# Altium integrated library Linear Technology Power Management PMIC Multifunction.IntLib: 360 symbols (part 15 of 42)
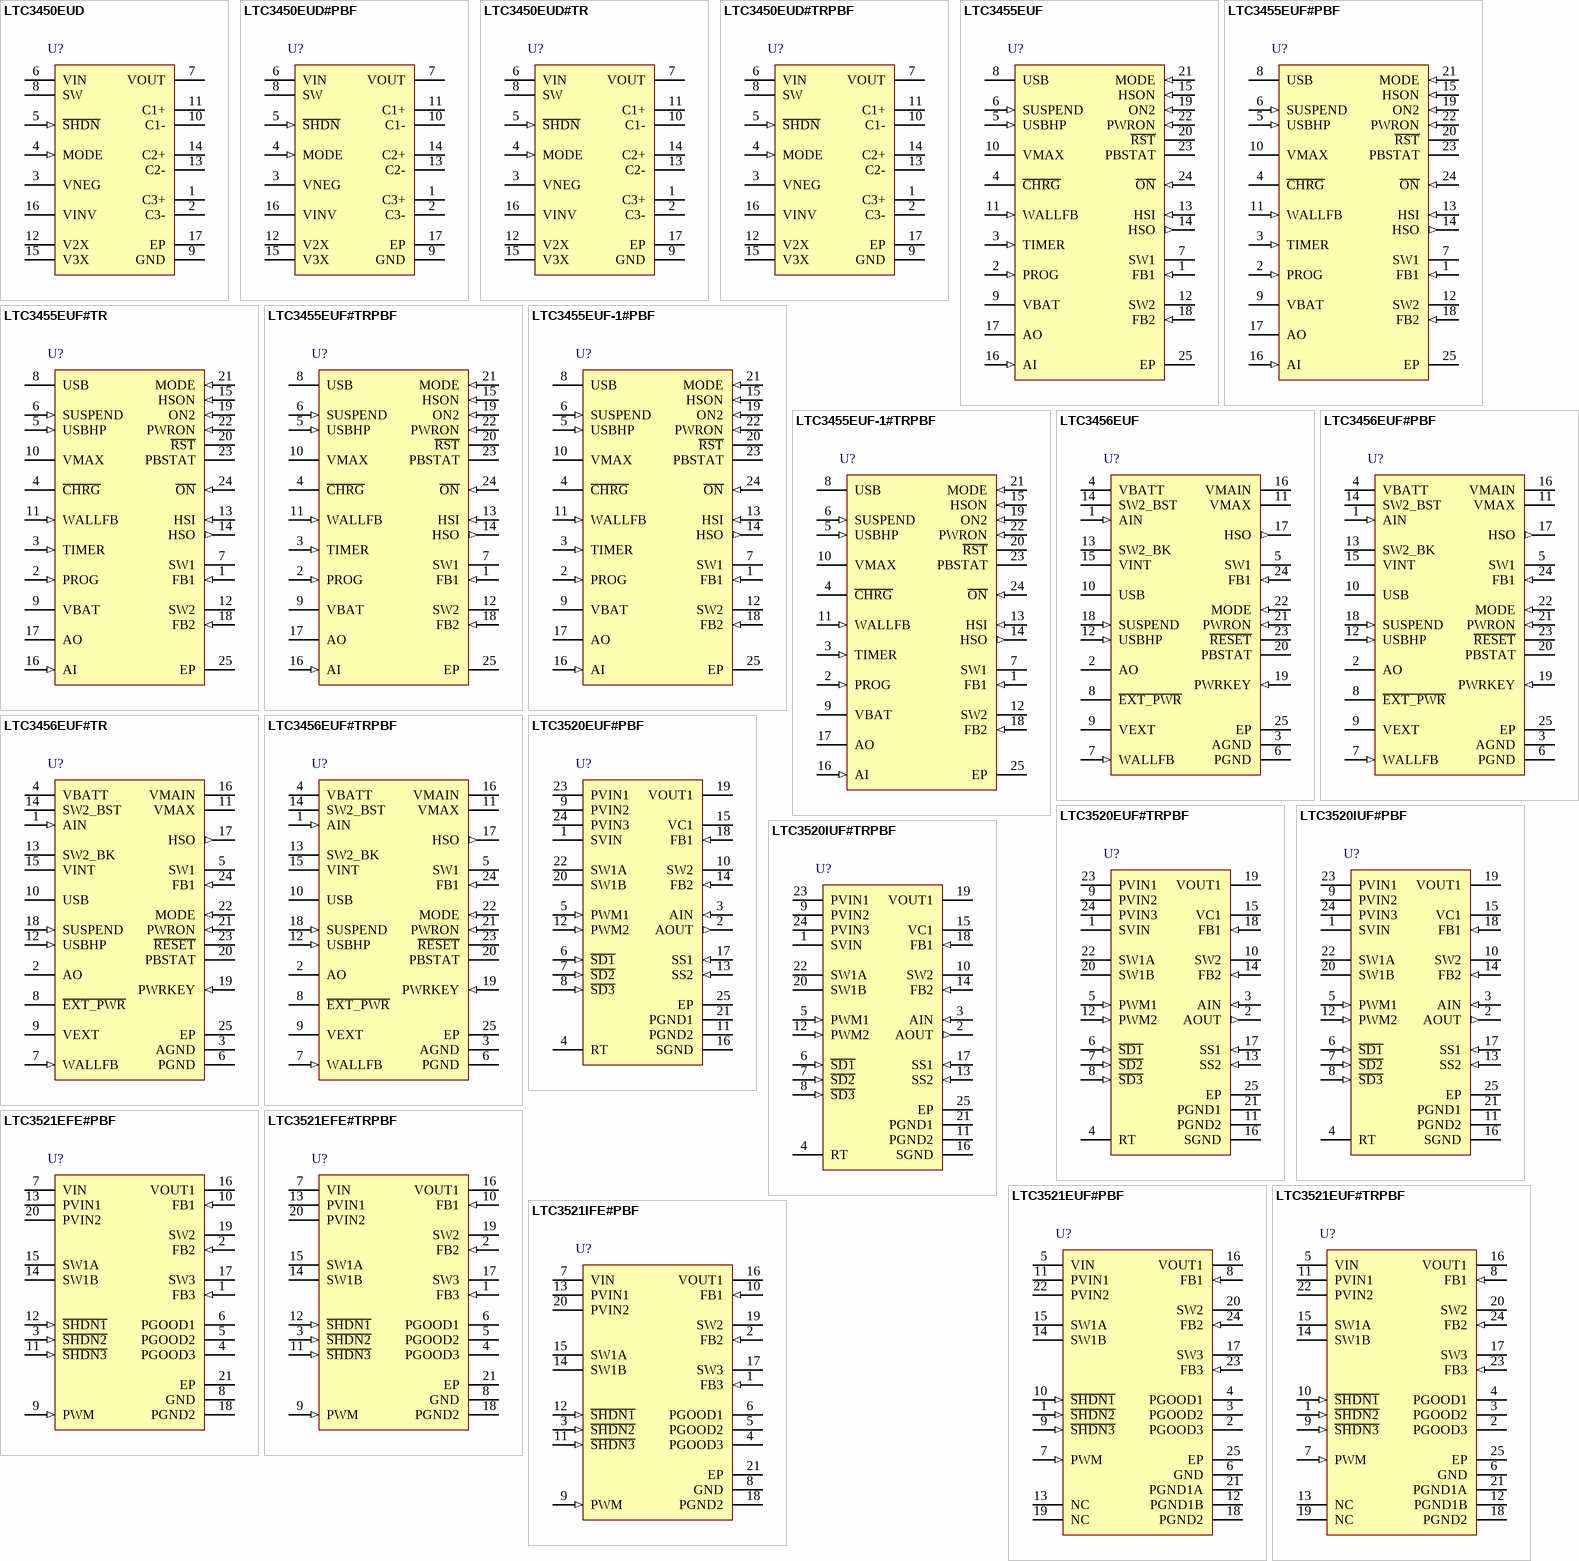
[diagram p32: symbols LTC3450EUD to LTC3521IFE#PBF]

## LTC3456EUF#TR
designator U?
2-Cell, Multi-Output DC/DC Converter with USB Power Manager, 1.8 to 5.5 V Vin, 24-pin QFN (UF-24), -40 to 85 degC, Tape and Reel; Manufacturer: Linear Technology; PartNumber: LTC3456EUF#TR; Number of Outputs: 2; Vin Max(V): 5.5; Vin Min(V): 1.8; DatasheetVersion: Rev. A; PackageVersion: Rev. B, 02/2012; PackageReference: UF24; PackageDescription: 24-Pin Plastic QFN, Body 4 x 4 mm, Pitch 0.5 mm; Packing: Tape and Reel; RoHS: FALSE; Mounting Technology: Surface Mount; Code_JEDEC: MO-220; ComponentLink1Description: Manufacturer URL; ComponentLink1URL: http://www.linear.com/; ComponentLink2Description: Datasheet; ComponentLink2URL: http://cds.linear.com/docs/en/datasheet/3456fa.pdf; ComponentLink3Description: Package Specification; ComponentLink3URL: http://cds.linear.com/docs/en/packaging/%28UF24%29%20QFN%2005-08-1697%20Rev%20B.pdf
footprint LT-UF-24_N (QFN, 24-Leads, Body 4.1x4.1mm, Pitch 0.5mm, Thermal Pad 2.45x2.45mm, IPC Medium Density)
footprint LT-UF-24_L (QFN, 24-Leads, Body 4.1x4.1mm, Pitch 0.5mm, Thermal Pad 2.45x2.45mm, IPC High Density)
footprint LT-UF-24_M (QFN, 24-Leads, Body 4.1x4.1mm, Pitch 0.5mm, Thermal Pad 2.45x2.45mm, IPC Low Density)
pins: 1 AIN (in) "Low-Battery Detector Input Pin. The detector compares the voltage on this pin to an 800mV reference. Connect the resistor divider tap to this pin to set the lowbattery trip point.", 2 AO (oc) "Open-Drain Digital Output. This open-drain logic output is pulled to GND whenever the AIN pin voltage falls lower than 0.8V.", 3 AGND (power) "Analog Ground. All resistor dividers should be connected to this pin.", 4 VBATT (power) "Battery Input Supply. The input voltage at this pin can range from 1.8V to 3.2V. Must be locally bypassed with a 1uF (or greater) X5R or X7R type ceramic capacitor.", 5 SW1 (power) "Switch Pin for Core Regulator. Connect the inductor between SW1 and the output capacitor. Keep these PCB trace lengths as short and wide as possible to reduce EMI.", 6 PGND (power) "Power Ground. This is the ground pin for all internal drivers and switches. Provide a short PCB path between PGND and PCB system ground.", 7 WALLFB (in) "Wall Feedback Pin. This pin receives the feedback voltage from an external resistor divider across the AC wall adapter input. When the pin voltage is higher than 1.25V, the chip is powered from the VEXT pin and the USB (See Datasheet)", 8 ~{EXT_PWR} (hiz) "External Power Good Pin. This opendrain logic output is pulled to GND whenever the WALLFB pin is pulled higher than 1.25V or the USB pin voltage is greater than 4V and SUSPEND is low. Essentially this pin is pulled low (See Datasheet)", 9 VEXT (power) "External Power Pin. This pin is connected to the USB pin via an internal 0.5ohm (typ) PMOS switch. The AC wall adapter can be connected to this pin through a Schottky diode. An onboard voltage detector prevents the IC from (See Datasheet)", 10 USB (power) "USB Input Supply. Input current into this pin is limited to either 100mA or 500mA based on the state of the USBHP pin. When the USB pin voltage is greater than 4V and SUSPEND is low, and WALLFB is less than 1.25V, USB is (See Datasheet)", 11 VMAX (power) "Maximum Supply Voltage Pin. A special internal PowerPathTM controller monitors the VBATT, VINT, VEXT and USB voltages and passes the highest available supply voltage to the VMAX pin. This pin is used to power some of the (See Datasheet)", 12 USBHP (in) "USB High Power Select Pin. This pin is used to set the USB current limit. Pull high to select 500mA current limit (High Power mode); low to select 100mA current limit (Low Power mode). This pin has a weak pulldown current (See Datasheet)", 13 SW2_BK (power) "Switch Pin for Main Regulator (USB or Wall Powered). Connect the inductor between SW2_BK and the output voltage. Keep these PCB trace lengths as short and wide as possible to reduce EMI.", 14 SW2_BST (power) "Switch Pin for Main Regulator (Battery Powered). Connect the inductor between SW2_BST and VBATT. Keep these PCB trace lengths as short and wide as possible to reduce EMI.", 15 VINT (power) "Internal Supply Voltage Pin. The VINT voltage is regulated to 3.3V. This pin is used to power most of the internal circuitry of the IC. Do not load this output. Connect an output capacitor from this pin to ground.", 16 VMAIN (power) "Main Regulator Output Voltage. An internal 0.4ohm PMOS switch connects this pin to the VINT pin 0.8ms (typ) after the Core voltage comes into regulation. This ensures that VMAIN will always power up after Core output during (See Datasheet)", 17 HSO (out) "Hot Swap Output. An internal 0.8ohm current limited PMOS switch connects this pin to the VINT pin 0.5ms after the core voltage comes into regulation. The nominal voltage at this pin is 3.3V. It is short-circuit protected and (See Datasheet)", 18 SUSPEND (in) "USB Suspend Pin. Pull this pin high to disable all USB functionality. The USB switch connected between USB and VEXT behaves like a back-to-back diode whenever SUSPEND is pulled high. In Suspend mode the device limits the (See Datasheet)", 19 PWRKEY (in) "Power O\N\/OFF Key. Connecting this pin to GND will turn on the IC. This pin is typically used with a momentary-on pushbutton switch to turn on the LTC3456. This pin must be held low until the PWRON pin is pulled high (See Datasheet)", 20 PBSTAT (oc) "Power O\N\/OFF Key Status Pin. This open-drain output pin indicates the state of the PWRKEY pin to the microcontroller. The pin output follows the state of the PWRKEY pin (PBSTAT goes low when PWRKEY is pulled low).", 21 PWRON (in) "Power On Pin. When pulled high this microprocessor controlled pin turns on the IC. This pin has a weak 1uA pull-down current source.", 22 MODE (in) "Burst Mode Select Pin. Tie this pin high to allow automatic Burst Mode operation. Burst Mode operation will provide superior efficiency when any of the outputs are operating with very low output currents. Tie this pin low to (See Datasheet)", 23 ~{RESET} (oc) "Fault Indicator Output Pin. This open-drain output is active both at power-up and power-down. R\E\S\E\T\ is held low at initial power up. When both the Core and Main outputs come into regulation, an internal R\E\S\E\T\ delay (See Datasheet)", 24 FB1 (in) "Feedback Pin for the Core Regulator. The regulator drives the voltage at this pin to 0.8V. Connect the resistor divider tap to this pin. The output voltage of the core regulator can be adjusted from 0.8V to VBATT(MIN).", 25 EP (power) "The Exposed Pad must be soldered to the PCB system ground."

## LTC3456EUF#TRPBF
designator U?
2-Cell, Multi-Output DC/DC Converter with USB Power Manager, 1.8 to 5.5 V Vin, 24-pin QFN (UF-24), -40 to 85 degC, Pb-Free, Tape and Reel; Manufacturer: Linear Technology; PartNumber: LTC3456EUF#TRPBF; Number of Outputs: 2; Vin Max(V): 5.5; Vin Min(V): 1.8; DatasheetVersion: Rev. A; PackageVersion: Rev. B, 02/2012; PackageReference: UF24; PackageDescription: 24-Pin Plastic QFN, Body 4 x 4 mm, Pitch 0.5 mm; Supplier 1: Digi-Key; Supplier Part Number 1: LTC3456EUF#TRPBF-ND; Packing: Tape and Reel; RoHS: TRUE; Mounting Technology: Surface Mount; Code_JEDEC: MO-220; ComponentLink1Description: Manufacturer URL; ComponentLink1URL: http://www.linear.com/; ComponentLink2Description: Datasheet; ComponentLink2URL: http://cds.linear.com/docs/en/datasheet/3456fa.pdf; ComponentLink3Description: Package Specification; ComponentLink3URL: http://cds.linear.com/docs/en/packaging/%28UF24%29%20QFN%2005-08-1697%20Rev%20B.pdf
footprint LT-UF-24_N (QFN, 24-Leads, Body 4.1x4.1mm, Pitch 0.5mm, Thermal Pad 2.45x2.45mm, IPC Medium Density)
footprint LT-UF-24_L (QFN, 24-Leads, Body 4.1x4.1mm, Pitch 0.5mm, Thermal Pad 2.45x2.45mm, IPC High Density)
footprint LT-UF-24_M (QFN, 24-Leads, Body 4.1x4.1mm, Pitch 0.5mm, Thermal Pad 2.45x2.45mm, IPC Low Density)
pins: 1 AIN (in) "Low-Battery Detector Input Pin. The detector compares the voltage on this pin to an 800mV reference. Connect the resistor divider tap to this pin to set the lowbattery trip point.", 2 AO (oc) "Open-Drain Digital Output. This open-drain logic output is pulled to GND whenever the AIN pin voltage falls lower than 0.8V.", 3 AGND (power) "Analog Ground. All resistor dividers should be connected to this pin.", 4 VBATT (power) "Battery Input Supply. The input voltage at this pin can range from 1.8V to 3.2V. Must be locally bypassed with a 1uF (or greater) X5R or X7R type ceramic capacitor.", 5 SW1 (power) "Switch Pin for Core Regulator. Connect the inductor between SW1 and the output capacitor. Keep these PCB trace lengths as short and wide as possible to reduce EMI.", 6 PGND (power) "Power Ground. This is the ground pin for all internal drivers and switches. Provide a short PCB path between PGND and PCB system ground.", 7 WALLFB (in) "Wall Feedback Pin. This pin receives the feedback voltage from an external resistor divider across the AC wall adapter input. When the pin voltage is higher than 1.25V, the chip is powered from the VEXT pin and the USB (See Datasheet)", 8 ~{EXT_PWR} (hiz) "External Power Good Pin. This opendrain logic output is pulled to GND whenever the WALLFB pin is pulled higher than 1.25V or the USB pin voltage is greater than 4V and SUSPEND is low. Essentially this pin is pulled low (See Datasheet)", 9 VEXT (power) "External Power Pin. This pin is connected to the USB pin via an internal 0.5ohm (typ) PMOS switch. The AC wall adapter can be connected to this pin through a Schottky diode. An onboard voltage detector prevents the IC from (See Datasheet)", 10 USB (power) "USB Input Supply. Input current into this pin is limited to either 100mA or 500mA based on the state of the USBHP pin. When the USB pin voltage is greater than 4V and SUSPEND is low, and WALLFB is less than 1.25V, USB is (See Datasheet)", 11 VMAX (power) "Maximum Supply Voltage Pin. A special internal PowerPathTM controller monitors the VBATT, VINT, VEXT and USB voltages and passes the highest available supply voltage to the VMAX pin. This pin is used to power some of the (See Datasheet)", 12 USBHP (in) "USB High Power Select Pin. This pin is used to set the USB current limit. Pull high to select 500mA current limit (High Power mode); low to select 100mA current limit (Low Power mode). This pin has a weak pulldown current (See Datasheet)", 13 SW2_BK (power) "Switch Pin for Main Regulator (USB or Wall Powered). Connect the inductor between SW2_BK and the output voltage. Keep these PCB trace lengths as short and wide as possible to reduce EMI.", 14 SW2_BST (power) "Switch Pin for Main Regulator (Battery Powered). Connect the inductor between SW2_BST and VBATT. Keep these PCB trace lengths as short and wide as possible to reduce EMI.", 15 VINT (power) "Internal Supply Voltage Pin. The VINT voltage is regulated to 3.3V. This pin is used to power most of the internal circuitry of the IC. Do not load this output. Connect an output capacitor from this pin to ground.", 16 VMAIN (power) "Main Regulator Output Voltage. An internal 0.4ohm PMOS switch connects this pin to the VINT pin 0.8ms (typ) after the Core voltage comes into regulation. This ensures that VMAIN will always power up after Core output during (See Datasheet)", 17 HSO (out) "Hot Swap Output. An internal 0.8ohm current limited PMOS switch connects this pin to the VINT pin 0.5ms after the core voltage comes into regulation. The nominal voltage at this pin is 3.3V. It is short-circuit protected and (See Datasheet)", 18 SUSPEND (in) "USB Suspend Pin. Pull this pin high to disable all USB functionality. The USB switch connected between USB and VEXT behaves like a back-to-back diode whenever SUSPEND is pulled high. In Suspend mode the device limits the (See Datasheet)", 19 PWRKEY (in) "Power O\N\/OFF Key. Connecting this pin to GND will turn on the IC. This pin is typically used with a momentary-on pushbutton switch to turn on the LTC3456. This pin must be held low until the PWRON pin is pulled high (See Datasheet)", 20 PBSTAT (oc) "Power O\N\/OFF Key Status Pin. This open-drain output pin indicates the state of the PWRKEY pin to the microcontroller. The pin output follows the state of the PWRKEY pin (PBSTAT goes low when PWRKEY is pulled low).", 21 PWRON (in) "Power On Pin. When pulled high this microprocessor controlled pin turns on the IC. This pin has a weak 1uA pull-down current source.", 22 MODE (in) "Burst Mode Select Pin. Tie this pin high to allow automatic Burst Mode operation. Burst Mode operation will provide superior efficiency when any of the outputs are operating with very low output currents. Tie this pin low to (See Datasheet)", 23 ~{RESET} (oc) "Fault Indicator Output Pin. This open-drain output is active both at power-up and power-down. R\E\S\E\T\ is held low at initial power up. When both the Core and Main outputs come into regulation, an internal R\E\S\E\T\ delay (See Datasheet)", 24 FB1 (in) "Feedback Pin for the Core Regulator. The regulator drives the voltage at this pin to 0.8V. Connect the resistor divider tap to this pin. The output voltage of the core regulator can be adjusted from 0.8V to VBATT(MIN).", 25 EP (power) "The Exposed Pad must be soldered to the PCB system ground."

## LTC3520EUF#PBF
designator U?
Synchronous 1 A Buck-Boost and 600 mA Buck Converter, 2.2 to 5.5 V Vin, 24-pin QFN (UF-24), -40 to 85 degC, Pb-Free; Manufacturer: Linear Technology; PartNumber: LTC3520EUF#PBF; Number of Outputs: 2; Vin Max(V): 5.5; Vin Min(V): 2.2; DatasheetVersion: Rev. A; PackageVersion: Rev. B, 02/2012; PackageReference: UF24; PackageDescription: 24-Pin Plastic QFN, Body 4 x 4 mm, Pitch 0.5 mm; Supplier 1: Digi-Key; Supplier Part Number 1: LTC3520EUF#PBF-ND; Supplier 2: Newark; Supplier Part Number 2: 56M7878; RoHS: TRUE; Mounting Technology: Surface Mount; Code_JEDEC: MO-220; ComponentLink1Description: Manufacturer URL; ComponentLink1URL: http://www.linear.com/; ComponentLink2Description: Datasheet; ComponentLink2URL: http://cds.linear.com/docs/en/datasheet/3520fa.pdf; ComponentLink3Description: Package Specification; ComponentLink3URL: http://cds.linear.com/docs/en/packaging/%28UF24%29%20QFN%2005-08-1697%20Rev%20B.pdf
footprint LT-UF-24_N (QFN, 24-Leads, Body 4.1x4.1mm, Pitch 0.5mm, Thermal Pad 2.45x2.45mm, IPC Medium Density)
footprint LT-UF-24_L (QFN, 24-Leads, Body 4.1x4.1mm, Pitch 0.5mm, Thermal Pad 2.45x2.45mm, IPC High Density)
footprint LT-UF-24_M (QFN, 24-Leads, Body 4.1x4.1mm, Pitch 0.5mm, Thermal Pad 2.45x2.45mm, IPC Low Density)
pins: 1 SVIN (power) "Small Signal Power Supply Connection. This pin is used to power the internal circuitry of the LTC3520. This pin should be bypassed using a 0.1uF or larger ceramic capacitor placed as close as possible to the pin with a short (See Datasheet)", 2 AOUT (out) "Uncommitted Ampli?er Output. This pin should be connected to the base of an external PNP transistor for use as an LDO regulator. If used as a battery-good indicator or for supply sequencing, this pin is the comparato(See Datasheet)", 3 AIN (in) "Non-Inverting Input to the Uncommitted Ampli?er. In LDO applications, this pin is connected to the LDO feedback voltage.", 4 RT "Programs the Frequency of the Internal Oscillator. This pin must be tied to ground via an external resistor. The value of the resistor controls the oscillator frequency. For details on choosing the value of this resistor see (See Datasheet)", 5 PWM1 (in) "Logic Input Used to Choose Between Burst and PWM Mode for the Buck-Boost Converter. This pin cannot be left ?oating.", 6 ~{SD1} (in) "Buck-Boost Active-Low Shutdown Pin. Forcing this pin above 1.4V enables the buck-boost converter. Forcing this pin below 0.4V disables the buck-boost converter. This pin cannot be left ?oating.", 7 ~{SD2} (in) "Buck Active-Low Shutdown Pin. Forcing this pin above 1.4V enables the buck converter. Forcing this pin below 0.4V disables the buck converter. This pin cannot be left ?oating.", 8 ~{SD3} (in) "Uncommitted Ampli?er Active-Low Shutdown Pin. Forcing this pin above 1.4V enables the uncommitted ampli?er. Forcing this pin below 0.4V disables the uncommitted ampli?er. This pin cannot be left ?oating.", 9 PVIN2 (power) "High Current Power Supply Connection Used to Supply the Buck Converter PMOS Power Device. This pin should be bypassed by a 22uF or larger ceramic  capacitor. The bypass capacitor should be placed as close to the pin as (See Datasheet)", 10 SW2 (power) "Buck Converter Switch Node. This pin must be connected to one side of the buck inductor.", 11 PGND2 (power) "High Current Ground Connection for the Buck Converter N-Channel MOSFET Power Device. The PCB trace connecting this pin to ground should be made as short and wide as possible.", 12 PWM2 (in) "Burst/PWM Mode Control Pin for the Buck Converter", 13 SS2 (in) "Buck Converter Soft-Start Pin. This pin must be connected to a soft-start capacitor. The value of the capacitor determines the duration of the soft-start period. For information on choosing the value of this capacitor, see (See Datasheet)", 14 FB2 (in) "Feedback Voltage for the Buck Converter.", 15 VC1 "Buck-Boost Error Ampli?er Output. A frequency compensation network is connected to FB1 to compensate the loop. During Burst Mode operation, VC1 is driven internally by a clamp circuit.", 16 SGND (power) "Small Signal Ground. This pin is used as a ground reference for the internal circuitry of the LTC3520.", 17 SS1 (in) "Buck-Boost Converter Soft-Start Pin. This pin must be connected to a soft-start capacitor. The value of the capacitor determines the duration of the soft-start period. For information on choosing the value of this capacitor, (See Datasheet)", 18 FB1 (in) "Feedback Voltage for the Buck-Boost Converter.", 19 VOUT1 (power) "Buck-Boost Output Voltage Node. This pin should be connected to a low ESR buck-boost output capacitor. The capacitor should be placed as close to the IC as possible and should have a short return path to ground.", 20 SW1B "Buck-Boost Switch Node. This pin must be connected to one side of the buck-boost inductor.", 21 PGND1 (power) "High Current Ground Connection for the Buck-Boost NMOS Power Devices. The PCB trace connecting this pin to ground should be made as short and wide as possible.", 22 SW1A "Buck-Boost Switch Node. This pin must be connected to one side of the buck-boost inductor.", 23 PVIN1 (power) "High Current Power Supply Connections Used to Power the Buck-Boost Converter Power Switch A. These pins should be connected together and bypassed by a 22uF or larger ceramic capacitor. The  bypass capacitor should be placed (See Datasheet)", 24 PVIN3 (power) "High Current Power Supply Connections Used to Power the Buck-Boost Converter Power Switch A. These pins should be connected together and bypassed by a 22uF or larger ceramic capacitor. The  bypass capacitor should be placed (See Datasheet)", 25 EP (power) "Ground. The Exposed Pad must be electrically connected to ground and soldered to the PCB. Pins PGND1, PGND2, SGND, and the Exposed Pad must be connected together in the application circuit."

## LTC3520EUF#TRPBF
designator U?
Synchronous 1 A Buck-Boost and 600 mA Buck Converter, 2.2 to 5.5 V Vin, 24-pin QFN (UF-24), -40 to 85 degC, Pb-Free, Tape and Reel; Manufacturer: Linear Technology; PartNumber: LTC3520EUF#TRPBF; Number of Outputs: 2; Vin Max(V): 5.5; Vin Min(V): 2.2; DatasheetVersion: Rev. A; PackageVersion: Rev. B, 02/2012; PackageReference: UF24; PackageDescription: 24-Pin Plastic QFN, Body 4 x 4 mm, Pitch 0.5 mm; Supplier 1: Digi-Key; Supplier Part Number 1: LTC3520EUF#TRPBFTR-ND; Supplier 2: Digi-Key; Supplier Part Number 2: LTC3520EUF#TRPBFCT-ND; Supplier 3: Digi-Key; Supplier Part Number 3: LTC3520EUF#TRPBFDKR-ND; Packing: Tape and Reel; RoHS: TRUE; Mounting Technology: Surface Mount; Code_JEDEC: MO-220; ComponentLink1Description: Manufacturer URL; ComponentLink1URL: http://www.linear.com/; ComponentLink2Description: Datasheet; ComponentLink2URL: http://cds.linear.com/docs/en/datasheet/3520fa.pdf; ComponentLink3Description: Package Specification; ComponentLink3URL: http://cds.linear.com/docs/en/packaging/%28UF24%29%20QFN%2005-08-1697%20Rev%20B.pdf
footprint LT-UF-24_N (QFN, 24-Leads, Body 4.1x4.1mm, Pitch 0.5mm, Thermal Pad 2.45x2.45mm, IPC Medium Density)
footprint LT-UF-24_L (QFN, 24-Leads, Body 4.1x4.1mm, Pitch 0.5mm, Thermal Pad 2.45x2.45mm, IPC High Density)
footprint LT-UF-24_M (QFN, 24-Leads, Body 4.1x4.1mm, Pitch 0.5mm, Thermal Pad 2.45x2.45mm, IPC Low Density)
pins: 1 SVIN (power) "Small Signal Power Supply Connection. This pin is used to power the internal circuitry of the LTC3520. This pin should be bypassed using a 0.1uF or larger ceramic capacitor placed as close as possible to the pin with a short (See Datasheet)", 2 AOUT (out) "Uncommitted Ampli?er Output. This pin should be connected to the base of an external PNP transistor for use as an LDO regulator. If used as a battery-good indicator or for supply sequencing, this pin is the comparato(See Datasheet)", 3 AIN (in) "Non-Inverting Input to the Uncommitted Ampli?er. In LDO applications, this pin is connected to the LDO feedback voltage.", 4 RT "Programs the Frequency of the Internal Oscillator. This pin must be tied to ground via an external resistor. The value of the resistor controls the oscillator frequency. For details on choosing the value of this resistor see (See Datasheet)", 5 PWM1 (in) "Logic Input Used to Choose Between Burst and PWM Mode for the Buck-Boost Converter. This pin cannot be left ?oating.", 6 ~{SD1} (in) "Buck-Boost Active-Low Shutdown Pin. Forcing this pin above 1.4V enables the buck-boost converter. Forcing this pin below 0.4V disables the buck-boost converter. This pin cannot be left ?oating.", 7 ~{SD2} (in) "Buck Active-Low Shutdown Pin. Forcing this pin above 1.4V enables the buck converter. Forcing this pin below 0.4V disables the buck converter. This pin cannot be left ?oating.", 8 ~{SD3} (in) "Uncommitted Ampli?er Active-Low Shutdown Pin. Forcing this pin above 1.4V enables the uncommitted ampli?er. Forcing this pin below 0.4V disables the uncommitted ampli?er. This pin cannot be left ?oating.", 9 PVIN2 (power) "High Current Power Supply Connection Used to Supply the Buck Converter PMOS Power Device. This pin should be bypassed by a 22uF or larger ceramic  capacitor. The bypass capacitor should be placed as close to the pin as (See Datasheet)", 10 SW2 (power) "Buck Converter Switch Node. This pin must be connected to one side of the buck inductor.", 11 PGND2 (power) "High Current Ground Connection for the Buck Converter N-Channel MOSFET Power Device. The PCB trace connecting this pin to ground should be made as short and wide as possible.", 12 PWM2 (in) "Burst/PWM Mode Control Pin for the Buck Converter", 13 SS2 (in) "Buck Converter Soft-Start Pin. This pin must be connected to a soft-start capacitor. The value of the capacitor determines the duration of the soft-start period. For information on choosing the value of this capacitor, see (See Datasheet)", 14 FB2 (in) "Feedback Voltage for the Buck Converter.", 15 VC1 "Buck-Boost Error Ampli?er Output. A frequency compensation network is connected to FB1 to compensate the loop. During Burst Mode operation, VC1 is driven internally by a clamp circuit.", 16 SGND (power) "Small Signal Ground. This pin is used as a ground reference for the internal circuitry of the LTC3520.", 17 SS1 (in) "Buck-Boost Converter Soft-Start Pin. This pin must be connected to a soft-start capacitor. The value of the capacitor determines the duration of the soft-start period. For information on choosing the value of this capacitor, (See Datasheet)", 18 FB1 (in) "Feedback Voltage for the Buck-Boost Converter.", 19 VOUT1 (power) "Buck-Boost Output Voltage Node. This pin should be connected to a low ESR buck-boost output capacitor. The capacitor should be placed as close to the IC as possible and should have a short return path to ground.", 20 SW1B "Buck-Boost Switch Node. This pin must be connected to one side of the buck-boost inductor.", 21 PGND1 (power) "High Current Ground Connection for the Buck-Boost NMOS Power Devices. The PCB trace connecting this pin to ground should be made as short and wide as possible.", 22 SW1A "Buck-Boost Switch Node. This pin must be connected to one side of the buck-boost inductor.", 23 PVIN1 (power) "High Current Power Supply Connections Used to Power the Buck-Boost Converter Power Switch A. These pins should be connected together and bypassed by a 22uF or larger ceramic capacitor. The  bypass capacitor should be placed (See Datasheet)", 24 PVIN3 (power) "High Current Power Supply Connections Used to Power the Buck-Boost Converter Power Switch A. These pins should be connected together and bypassed by a 22uF or larger ceramic capacitor. The  bypass capacitor should be placed (See Datasheet)", 25 EP (power) "Ground. The Exposed Pad must be electrically connected to ground and soldered to the PCB. Pins PGND1, PGND2, SGND, and the Exposed Pad must be connected together in the application circuit."

## LTC3520IUF#PBF
designator U?
Synchronous 1 A Buck-Boost and 600 mA Buck Converter, 2.2 to 5.5 V Vin, 24-pin QFN (UF-24), -40 to 125 degC, Pb-Free; Manufacturer: Linear Technology; PartNumber: LTC3520IUF#PBF; Number of Outputs: 2; Vin Max(V): 5.5; Vin Min(V): 2.2; DatasheetVersion: Rev. A; PackageVersion: Rev. B, 02/2012; PackageReference: UF24; PackageDescription: 24-Pin Plastic QFN, Body 4 x 4 mm, Pitch 0.5 mm; Supplier 1: Digi-Key; Supplier Part Number 1: LTC3520IUF#PBF-ND; RoHS: TRUE; Mounting Technology: Surface Mount; Code_JEDEC: MO-220; ComponentLink1Description: Manufacturer URL; ComponentLink1URL: http://www.linear.com/; ComponentLink2Description: Datasheet; ComponentLink2URL: http://cds.linear.com/docs/en/datasheet/3520fa.pdf; ComponentLink3Description: Package Specification; ComponentLink3URL: http://cds.linear.com/docs/en/packaging/%28UF24%29%20QFN%2005-08-1697%20Rev%20B.pdf
footprint LT-UF-24_N (QFN, 24-Leads, Body 4.1x4.1mm, Pitch 0.5mm, Thermal Pad 2.45x2.45mm, IPC Medium Density)
footprint LT-UF-24_L (QFN, 24-Leads, Body 4.1x4.1mm, Pitch 0.5mm, Thermal Pad 2.45x2.45mm, IPC High Density)
footprint LT-UF-24_M (QFN, 24-Leads, Body 4.1x4.1mm, Pitch 0.5mm, Thermal Pad 2.45x2.45mm, IPC Low Density)
pins: 1 SVIN (power) "Small Signal Power Supply Connection. This pin is used to power the internal circuitry of the LTC3520. This pin should be bypassed using a 0.1uF or larger ceramic capacitor placed as close as possible to the pin with a short (See Datasheet)", 2 AOUT (out) "Uncommitted Ampli?er Output. This pin should be connected to the base of an external PNP transistor for use as an LDO regulator. If used as a battery-good indicator or for supply sequencing, this pin is the comparato(See Datasheet)", 3 AIN (in) "Non-Inverting Input to the Uncommitted Ampli?er. In LDO applications, this pin is connected to the LDO feedback voltage.", 4 RT "Programs the Frequency of the Internal Oscillator. This pin must be tied to ground via an external resistor. The value of the resistor controls the oscillator frequency. For details on choosing the value of this resistor see (See Datasheet)", 5 PWM1 (in) "Logic Input Used to Choose Between Burst and PWM Mode for the Buck-Boost Converter. This pin cannot be left ?oating.", 6 ~{SD1} (in) "Buck-Boost Active-Low Shutdown Pin. Forcing this pin above 1.4V enables the buck-boost converter. Forcing this pin below 0.4V disables the buck-boost converter. This pin cannot be left ?oating.", 7 ~{SD2} (in) "Buck Active-Low Shutdown Pin. Forcing this pin above 1.4V enables the buck converter. Forcing this pin below 0.4V disables the buck converter. This pin cannot be left ?oating.", 8 ~{SD3} (in) "Uncommitted Ampli?er Active-Low Shutdown Pin. Forcing this pin above 1.4V enables the uncommitted ampli?er. Forcing this pin below 0.4V disables the uncommitted ampli?er. This pin cannot be left ?oating.", 9 PVIN2 (power) "High Current Power Supply Connection Used to Supply the Buck Converter PMOS Power Device. This pin should be bypassed by a 22uF or larger ceramic  capacitor. The bypass capacitor should be placed as close to the pin as (See Datasheet)", 10 SW2 (power) "Buck Converter Switch Node. This pin must be connected to one side of the buck inductor.", 11 PGND2 (power) "High Current Ground Connection for the Buck Converter N-Channel MOSFET Power Device. The PCB trace connecting this pin to ground should be made as short and wide as possible.", 12 PWM2 (in) "Burst/PWM Mode Control Pin for the Buck Converter", 13 SS2 (in) "Buck Converter Soft-Start Pin. This pin must be connected to a soft-start capacitor. The value of the capacitor determines the duration of the soft-start period. For information on choosing the value of this capacitor, see (See Datasheet)", 14 FB2 (in) "Feedback Voltage for the Buck Converter.", 15 VC1 "Buck-Boost Error Ampli?er Output. A frequency compensation network is connected to FB1 to compensate the loop. During Burst Mode operation, VC1 is driven internally by a clamp circuit.", 16 SGND (power) "Small Signal Ground. This pin is used as a ground reference for the internal circuitry of the LTC3520.", 17 SS1 (in) "Buck-Boost Converter Soft-Start Pin. This pin must be connected to a soft-start capacitor. The value of the capacitor determines the duration of the soft-start period. For information on choosing the value of this capacitor, (See Datasheet)", 18 FB1 (in) "Feedback Voltage for the Buck-Boost Converter.", 19 VOUT1 (power) "Buck-Boost Output Voltage Node. This pin should be connected to a low ESR buck-boost output capacitor. The capacitor should be placed as close to the IC as possible and should have a short return path to ground.", 20 SW1B "Buck-Boost Switch Node. This pin must be connected to one side of the buck-boost inductor.", 21 PGND1 (power) "High Current Ground Connection for the Buck-Boost NMOS Power Devices. The PCB trace connecting this pin to ground should be made as short and wide as possible.", 22 SW1A "Buck-Boost Switch Node. This pin must be connected to one side of the buck-boost inductor.", 23 PVIN1 (power) "High Current Power Supply Connections Used to Power the Buck-Boost Converter Power Switch A. These pins should be connected together and bypassed by a 22uF or larger ceramic capacitor. The  bypass capacitor should be placed (See Datasheet)", 24 PVIN3 (power) "High Current Power Supply Connections Used to Power the Buck-Boost Converter Power Switch A. These pins should be connected together and bypassed by a 22uF or larger ceramic capacitor. The  bypass capacitor should be placed (See Datasheet)", 25 EP (power) "Ground. The Exposed Pad must be electrically connected to ground and soldered to the PCB. Pins PGND1, PGND2, SGND, and the Exposed Pad must be connected together in the application circuit."

## LTC3520IUF#TRPBF
designator U?
Synchronous 1 A Buck-Boost and 600 mA Buck Converter, 2.2 to 5.5 V Vin, 24-pin QFN (UF-24), -40 to 125 degC, Pb-Free, Tape and Reel; Manufacturer: Linear Technology; PartNumber: LTC3520IUF#TRPBF; Number of Outputs: 2; Vin Max(V): 5.5; Vin Min(V): 2.2; DatasheetVersion: Rev. A; PackageVersion: Rev. B, 02/2012; PackageReference: UF24; PackageDescription: 24-Pin Plastic QFN, Body 4 x 4 mm, Pitch 0.5 mm; Supplier 1: Digi-Key; Supplier Part Number 1: LTC3520IUF#TRPBF-ND; Supplier 2: Newark; Supplier Part Number 2: 25R2863; Packing: Tape and Reel; RoHS: TRUE; Mounting Technology: Surface Mount; Code_JEDEC: MO-220; ComponentLink1Description: Manufacturer URL; ComponentLink1URL: http://www.linear.com/; ComponentLink2Description: Datasheet; ComponentLink2URL: http://cds.linear.com/docs/en/datasheet/3520fa.pdf; ComponentLink3Description: Package Specification; ComponentLink3URL: http://cds.linear.com/docs/en/packaging/%28UF24%29%20QFN%2005-08-1697%20Rev%20B.pdf
footprint LT-UF-24_N (QFN, 24-Leads, Body 4.1x4.1mm, Pitch 0.5mm, Thermal Pad 2.45x2.45mm, IPC Medium Density)
footprint LT-UF-24_L (QFN, 24-Leads, Body 4.1x4.1mm, Pitch 0.5mm, Thermal Pad 2.45x2.45mm, IPC High Density)
footprint LT-UF-24_M (QFN, 24-Leads, Body 4.1x4.1mm, Pitch 0.5mm, Thermal Pad 2.45x2.45mm, IPC Low Density)
pins: 1 SVIN (power) "Small Signal Power Supply Connection. This pin is used to power the internal circuitry of the LTC3520. This pin should be bypassed using a 0.1uF or larger ceramic capacitor placed as close as possible to the pin with a short (See Datasheet)", 2 AOUT (out) "Uncommitted Ampli?er Output. This pin should be connected to the base of an external PNP transistor for use as an LDO regulator. If used as a battery-good indicator or for supply sequencing, this pin is the comparato(See Datasheet)", 3 AIN (in) "Non-Inverting Input to the Uncommitted Ampli?er. In LDO applications, this pin is connected to the LDO feedback voltage.", 4 RT "Programs the Frequency of the Internal Oscillator. This pin must be tied to ground via an external resistor. The value of the resistor controls the oscillator frequency. For details on choosing the value of this resistor see (See Datasheet)", 5 PWM1 (in) "Logic Input Used to Choose Between Burst and PWM Mode for the Buck-Boost Converter. This pin cannot be left ?oating.", 6 ~{SD1} (in) "Buck-Boost Active-Low Shutdown Pin. Forcing this pin above 1.4V enables the buck-boost converter. Forcing this pin below 0.4V disables the buck-boost converter. This pin cannot be left ?oating.", 7 ~{SD2} (in) "Buck Active-Low Shutdown Pin. Forcing this pin above 1.4V enables the buck converter. Forcing this pin below 0.4V disables the buck converter. This pin cannot be left ?oating.", 8 ~{SD3} (in) "Uncommitted Ampli?er Active-Low Shutdown Pin. Forcing this pin above 1.4V enables the uncommitted ampli?er. Forcing this pin below 0.4V disables the uncommitted ampli?er. This pin cannot be left ?oating.", 9 PVIN2 (power) "High Current Power Supply Connection Used to Supply the Buck Converter PMOS Power Device. This pin should be bypassed by a 22uF or larger ceramic  capacitor. The bypass capacitor should be placed as close to the pin as (See Datasheet)", 10 SW2 (power) "Buck Converter Switch Node. This pin must be connected to one side of the buck inductor.", 11 PGND2 (power) "High Current Ground Connection for the Buck Converter N-Channel MOSFET Power Device. The PCB trace connecting this pin to ground should be made as short and wide as possible.", 12 PWM2 (in) "Burst/PWM Mode Control Pin for the Buck Converter", 13 SS2 (in) "Buck Converter Soft-Start Pin. This pin must be connected to a soft-start capacitor. The value of the capacitor determines the duration of the soft-start period. For information on choosing the value of this capacitor, see (See Datasheet)", 14 FB2 (in) "Feedback Voltage for the Buck Converter.", 15 VC1 "Buck-Boost Error Ampli?er Output. A frequency compensation network is connected to FB1 to compensate the loop. During Burst Mode operation, VC1 is driven internally by a clamp circuit.", 16 SGND (power) "Small Signal Ground. This pin is used as a ground reference for the internal circuitry of the LTC3520.", 17 SS1 (in) "Buck-Boost Converter Soft-Start Pin. This pin must be connected to a soft-start capacitor. The value of the capacitor determines the duration of the soft-start period. For information on choosing the value of this capacitor, (See Datasheet)", 18 FB1 (in) "Feedback Voltage for the Buck-Boost Converter.", 19 VOUT1 (power) "Buck-Boost Output Voltage Node. This pin should be connected to a low ESR buck-boost output capacitor. The capacitor should be placed as close to the IC as possible and should have a short return path to ground.", 20 SW1B "Buck-Boost Switch Node. This pin must be connected to one side of the buck-boost inductor.", 21 PGND1 (power) "High Current Ground Connection for the Buck-Boost NMOS Power Devices. The PCB trace connecting this pin to ground should be made as short and wide as possible.", 22 SW1A "Buck-Boost Switch Node. This pin must be connected to one side of the buck-boost inductor.", 23 PVIN1 (power) "High Current Power Supply Connections Used to Power the Buck-Boost Converter Power Switch A. These pins should be connected together and bypassed by a 22uF or larger ceramic capacitor. The  bypass capacitor should be placed (See Datasheet)", 24 PVIN3 (power) "High Current Power Supply Connections Used to Power the Buck-Boost Converter Power Switch A. These pins should be connected together and bypassed by a 22uF or larger ceramic capacitor. The  bypass capacitor should be placed (See Datasheet)", 25 EP (power) "Ground. The Exposed Pad must be electrically connected to ground and soldered to the PCB. Pins PGND1, PGND2, SGND, and the Exposed Pad must be connected together in the application circuit."

## LTC3521EFE#PBF
designator U?
Wide Vin, 1 A Buck-Boost DC/DC and Dual 600 mA Buck DC/DC Converter, 1.8 to 5.5 V Vin, 20-pin SOP (FE-20-EPV-CB), -40 to 125 degC, Pb-Free; Manufacturer: Linear Technology; PartNumber: LTC3521EFE#PBF; Number of Outputs: 3; Vin Max(V): 5.5; Vin Min(V): 1.8; DatasheetVersion: Rev. A; PackageVersion: Rev. I, 05/2011; PackageReference: FE-20; PackageDescription: 20-Pin Plastic TSSOP, Body 6.5 x 4.4 mm, Pitch 0.65 mm; Supplier 1: Digi-Key; Supplier Part Number 1: LTC3521EFE#PBF-ND; Supplier 2: Farnell; Supplier Part Number 2: 1839097; RoHS: TRUE; Mounting Technology: Surface Mount; ComponentLink1Description: Manufacturer URL; ComponentLink1URL: http://www.linear.com/; ComponentLink2Description: Datasheet; ComponentLink2URL: http://cds.linear.com/docs/en/datasheet/3521fa.pdf; ComponentLink3Description: Package Specification; ComponentLink3URL: http://cds.linear.com/docs/en/packaging/05081663__J_FE20(CB).pdf
footprint LT-FE-20-EPV-CB_N (SOP, 20-Leads, Body 6.6x4.5mm, Pitch 0.65mm, Thermal Pad 3.86x2.74mm, IPC Medium Density)
footprint LT-FE-20-EPV-CB_L (SOP, 20-Leads, Body 6.6x4.5mm, Pitch 0.65mm, Thermal Pad 3.86x2.74mm, IPC High Density)
footprint LT-FE-20-EPV-CB_M (SOP, 20-Leads, Body 6.6x4.5mm, Pitch 0.65mm, Thermal Pad 3.86x2.74mm, IPC Low Density)
pins: 1 FB3 (in) "Feedback Voltage for the Buck Converter Derived from a Resistor Divider Connected to the Buck VOUT3 Output Voltage. The buck output voltage is given by the following equation, where R1 is a resistor between FB3 and ground, (See Datasheet)", 2 FB2 (in) "Feedback Voltage for the Buck Converter Derived from a Resistor Divider Connected to the Buck VOUT2 Output Voltage. The buck output voltage is given by the following equation, where R1 is a resistor between FB2 and ground, (See Datasheet)", 3 ~{SHDN2} (in) "Forcing this pin above 1.4V enables the buck converter output at SW2. Forcing this pin below 0.4V disables the buck converter. This pin cannot be left floating.", 4 PGOOD3 (oc) "This pin is an open-drain output which pulls low under any of the following conditions: VOUT3 buck output voltage is out of regulation, the part is in overtemperature shutdown, the part is in undervoltage lockout, or the (See Datasheet)", 5 PGOOD2 (oc) "This pin is an open-drain output which pulls low under any of the following conditions: VOUT2 buck output voltage is out of regulation, the part is in overtemperature shutdown, the part is in undervoltage lockout, or the (See Datasheet)", 6 PGOOD1 (oc) "This pin is an open-drain output which pulls low under any of the following conditions: VOUT1 buck-boost output voltage is out of regulation, the part is in overtemperature shutdown, the part is in undervoltage lockout, the (See Datasheet)", 7 VIN (power) "Low Current Power Supply Connection Used to Power the Internal Circuitry of the LTC3521. This pin should be bypassed by a 4.7uF, or larger, ceramic capacitor. The bypass capacitor should be placed as close to the pin as (See Datasheet)", 8 GND (power) "Small Signal Ground. This pin is used as a ground reference for the internal circuitry of the LTC3521.", 9 PWM (in) "Logic Input Used to Choose Between Burst Mode Operation and PWM Mode for All Three Converters. This pin cannot be left floating.", 10 FB1 (in) "Feedback Voltage for the Buck-Boost Converter Derived from a Resistor Divider on the Buck- Boost Output Voltage. The buck-boost output voltage is given by the following equation, where R1 is a resistor between FB1 and (See Datasheet)", 11 ~{SHDN3} (in) "Forcing this pin above 1.4V enables the buck converter output at SW3. Forcing this pin below 0.4V disables the buck converter. This pin cannot be left floating.", 12 ~{SHDN1} (in) "Forcing this pin above 1.4V enables the buck-boost converter. Forcing this pin below 0.4V disables the buck-boost converter. This pin cannot be left floating.", 13 PVIN1 (power) "High current power supply connection used to supply switch A of the buck-boost converter. This pin should be bypassed by a 4.7uF, or larger, ceramic cap. The bypass capacitor should be placed as close to the pin as possible (See Datasheet)", 14 SW1B "Buck-Boost Switch Node. This pin must be connected to one side of the buck-boost inductor.", 15 SW1A "Buck-Boost Switch Node. This pin must be connected to one side of the buck-boost inductor.", 16 VOUT1 (power) "Buck-Boost Output Voltage Node. This pin should be connected to a low ESR ceramic capacitor. The capacitor should be placed as close to the IC as possible and should have a short return to ground.", 17 SW3 (power) "Buck converter Switch Node. This pin must be connected to the opposite side of the inductor connected to VOUT3.", 18 PGND2 (power) "High Current Ground Connection for Both Buck Converters. The PCB trace connecting this pin to ground should be made as short and wide as possible.", 19 SW2 (power) "Buck Converter Switch Node. This pin must be connected to the opposite side of the inductor connected to VOUT2.", 20 PVIN2 (power) "High Current Power Supply Connection Used to Supply the Buck Converter Power Switches. This pin should be bypassed by a 10uF or larger ceramic cap. The bypass capacitor should be placed as close to the pin as possible and (See Datasheet)", 21 EP (power) "High Current Ground Connection for the Buck- Boost Switch B. The PCB trace connecting this pin to ground should be made as short and wide as possible."

## LTC3521EFE#TRPBF
designator U?
Wide Vin, 1 A Buck-Boost DC/DC and Dual 600 mA Buck DC/DC Converter, 1.8 to 5.5 V Vin, 20-pin SOP (FE-20-EPV-CB), -40 to 125 degC, Pb-Free, Tape and Reel; Manufacturer: Linear Technology; PartNumber: LTC3521EFE#TRPBF; Number of Outputs: 3; Vin Max(V): 5.5; Vin Min(V): 1.8; DatasheetVersion: Rev. A; PackageVersion: Rev. I, 05/2011; PackageReference: FE-20; PackageDescription: 20-Pin Plastic TSSOP, Body 6.5 x 4.4 mm, Pitch 0.65 mm; Supplier 1: Digi-Key; Supplier Part Number 1: LTC3521EFE#TRPBF-ND; Packing: Tape and Reel; RoHS: TRUE; Mounting Technology: Surface Mount; ComponentLink1Description: Manufacturer URL; ComponentLink1URL: http://www.linear.com/; ComponentLink2Description: Datasheet; ComponentLink2URL: http://cds.linear.com/docs/en/datasheet/3521fa.pdf; ComponentLink3Description: Package Specification; ComponentLink3URL: http://cds.linear.com/docs/en/packaging/05081663__J_FE20(CB).pdf
footprint LT-FE-20-EPV-CB_N (SOP, 20-Leads, Body 6.6x4.5mm, Pitch 0.65mm, Thermal Pad 3.86x2.74mm, IPC Medium Density)
footprint LT-FE-20-EPV-CB_L (SOP, 20-Leads, Body 6.6x4.5mm, Pitch 0.65mm, Thermal Pad 3.86x2.74mm, IPC High Density)
footprint LT-FE-20-EPV-CB_M (SOP, 20-Leads, Body 6.6x4.5mm, Pitch 0.65mm, Thermal Pad 3.86x2.74mm, IPC Low Density)
pins: 1 FB3 (in) "Feedback Voltage for the Buck Converter Derived from a Resistor Divider Connected to the Buck VOUT3 Output Voltage. The buck output voltage is given by the following equation, where R1 is a resistor between FB3 and ground, (See Datasheet)", 2 FB2 (in) "Feedback Voltage for the Buck Converter Derived from a Resistor Divider Connected to the Buck VOUT2 Output Voltage. The buck output voltage is given by the following equation, where R1 is a resistor between FB2 and ground, (See Datasheet)", 3 ~{SHDN2} (in) "Forcing this pin above 1.4V enables the buck converter output at SW2. Forcing this pin below 0.4V disables the buck converter. This pin cannot be left floating.", 4 PGOOD3 (oc) "This pin is an open-drain output which pulls low under any of the following conditions: VOUT3 buck output voltage is out of regulation, the part is in overtemperature shutdown, the part is in undervoltage lockout, or the (See Datasheet)", 5 PGOOD2 (oc) "This pin is an open-drain output which pulls low under any of the following conditions: VOUT2 buck output voltage is out of regulation, the part is in overtemperature shutdown, the part is in undervoltage lockout, or the (See Datasheet)", 6 PGOOD1 (oc) "This pin is an open-drain output which pulls low under any of the following conditions: VOUT1 buck-boost output voltage is out of regulation, the part is in overtemperature shutdown, the part is in undervoltage lockout, the (See Datasheet)", 7 VIN (power) "Low Current Power Supply Connection Used to Power the Internal Circuitry of the LTC3521. This pin should be bypassed by a 4.7uF, or larger, ceramic capacitor. The bypass capacitor should be placed as close to the pin as (See Datasheet)", 8 GND (power) "Small Signal Ground. This pin is used as a ground reference for the internal circuitry of the LTC3521.", 9 PWM (in) "Logic Input Used to Choose Between Burst Mode Operation and PWM Mode for All Three Converters. This pin cannot be left floating.", 10 FB1 (in) "Feedback Voltage for the Buck-Boost Converter Derived from a Resistor Divider on the Buck- Boost Output Voltage. The buck-boost output voltage is given by the following equation, where R1 is a resistor between FB1 and (See Datasheet)", 11 ~{SHDN3} (in) "Forcing this pin above 1.4V enables the buck converter output at SW3. Forcing this pin below 0.4V disables the buck converter. This pin cannot be left floating.", 12 ~{SHDN1} (in) "Forcing this pin above 1.4V enables the buck-boost converter. Forcing this pin below 0.4V disables the buck-boost converter. This pin cannot be left floating.", 13 PVIN1 (power) "High current power supply connection used to supply switch A of the buck-boost converter. This pin should be bypassed by a 4.7uF, or larger, ceramic cap. The bypass capacitor should be placed as close to the pin as possible (See Datasheet)", 14 SW1B "Buck-Boost Switch Node. This pin must be connected to one side of the buck-boost inductor.", 15 SW1A "Buck-Boost Switch Node. This pin must be connected to one side of the buck-boost inductor.", 16 VOUT1 (power) "Buck-Boost Output Voltage Node. This pin should be connected to a low ESR ceramic capacitor. The capacitor should be placed as close to the IC as possible and should have a short return to ground.", 17 SW3 (power) "Buck converter Switch Node. This pin must be connected to the opposite side of the inductor connected to VOUT3.", 18 PGND2 (power) "High Current Ground Connection for Both Buck Converters. The PCB trace connecting this pin to ground should be made as short and wide as possible.", 19 SW2 (power) "Buck Converter Switch Node. This pin must be connected to the opposite side of the inductor connected to VOUT2.", 20 PVIN2 (power) "High Current Power Supply Connection Used to Supply the Buck Converter Power Switches. This pin should be bypassed by a 10uF or larger ceramic cap. The bypass capacitor should be placed as close to the pin as possible and (See Datasheet)", 21 EP (power) "High Current Ground Connection for the Buck- Boost Switch B. The PCB trace connecting this pin to ground should be made as short and wide as possible."